# Altium schematic symbol library Logic.SchLib: 1 symbol
Pins are listed as number, name and electrical type; pins without a type are passive.

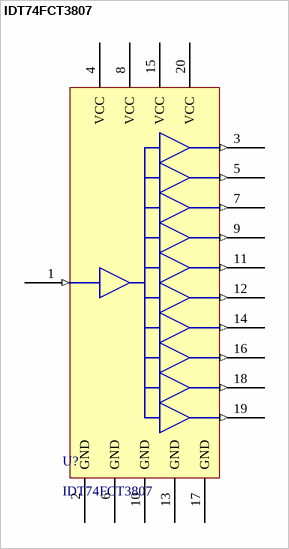
[diagram p0: symbol IDT74FCT3807]

## IDT74FCT3807
designator U?
1 to 10 Clock Driver
footprint QSOP-20
footprint SSOP-20
pins: 1 IN (in), 2 GND (power), 3 O1 (out), 4 VCC (power), 5 O2 (out), 6 GND (power), 7 O3 (out), 8 VCC (power), 9 O4 (out), 10 GND (power), 11 O5 (out), 12 O6 (out), 13 GND (power), 14 O7 (out), 15 VCC (power), 16 O8 (out), 17 GND (power), 18 O9 (out), 19 O10 (out), 20 VCC (power)